# Altium schematic symbol library components.SchLib: 17 symbols
Pins are listed as number, name and electrical type; pins without a type are passive.

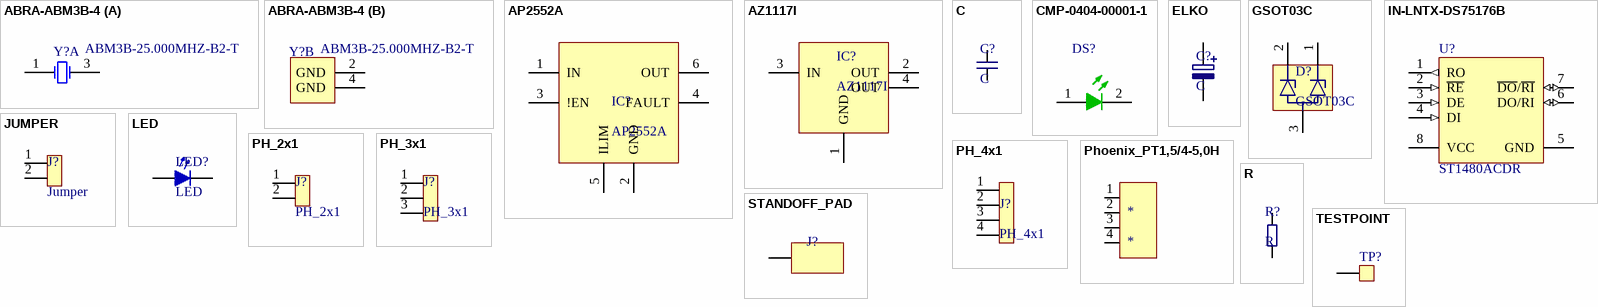
[diagram p0: symbols ABRA-ABM3B-4 to TESTPOINT]

## ABRA-ABM3B-4
designator Y?, comment ABM3B-25.000MHZ-B2-T
Crystal, SMD, 25.000000MHz Stab=50ppm 18.0pF; Manufacturer: Abracon; Packing Type: Tape & Reel; Body Shape: Rectangular; Case Size: 5.0 x 3.2 mm; PackageDescription: 4-Pin SMT Crystal, 5.2 x 3.4 mm Body; ComponentLink2Description: Datasheet; Mounting Technology: Surface Mount; ComponentLink1URL: http://www.abracon.com/; PackageReference: ABM3B; DatasheetVersion: Apr-13; PartNumber: ABM3B-25.000MHZ-B2-T; ComponentLink2URL: http://www.abracon.com/Resonators/abm3b.pdf; ComponentLink1Description: Manufacturer URL; Storage Temperature: -40 to 80 degC
footprint ABRA-ABM3B-4_V (SMT Crystal, 4-Leads, Body 5.2x3.4mm)
part A pins: 1 X1, 3 X2
part B pins: 2 GND (power), 4 GND (power)

## AP2552A
designator IC?
Active-low current/temp limited load switch (active low)
pins: 1 IN, 2 GND, 3 !EN, 4 FAULT, 5 ILIM, 6 OUT

## AZ1117I
designator IC?
LDO, industrial temp range
pins: 1 GND, 2 OUT, 3 IN, 4 OUT

## C
designator C?
Capacitor
pins: 1, 2

## CMP-0404-00001-1
designator DS?, comment KP-1608MGC  (value not drawn)
LED, SMT, 0603(1608), 1.1mm thickness, Green; Manufacturer: Kingbright; Reverse Voltage: 5 V; Power Dissipation: 75 mW; Forward Current: 30 mA; Packing Type: 2000 pcs / reel; Mounting Technology: Surface Mount; Storage Temperature: -40 to +85 degC; ComponentLink1URL: http://www.kingbright.com/; PackageDescription: 2-Pin SMT LED, 1.6 x 0.8 mm Pitch; PartNumber: KP-1608MGC; PackageReference: 0603LED_GREEN; ComponentLink1Description: Manufacturer URL
footprint KING-0603LED_GREEN_V (SMT LED, 2-Leads, Body 1.6x0.8mm (0603-Size))
pins: 1 A, 2 K

## ELKO
designator C?, comment C
pins: 1, 2

## GSOT03C
designator D?
Dual ESD protection zener
pins: 1, 2, 3 GND

## IN-LNTX-DS75176B
designator U?, comment ST1480ACDR
Multipoint RS-485/RS-422 Transceiver, 8-pin Narrow SOIC; Manufacturer: National Semiconductor; PackageTopMarking: NSZXTT*DS751*76BM; CompType: Interface IC; PowerWise: N; PackageReference: M08A; RoHS: N; PackageVersion: revM, May-2009; PinCount: 8; DatasheetVersion: Jul-2004; PackageDescription: SOIC Narrow, 4.9 x 3.9 x 1.45mm, 8 Lead, 1.27mm Pitch; Code_JEDEC: MS-012-AA; Code_IPC: SOIC127P600-8
footprint M08A_N (SOIC, 8-Leads, Body 4.9x3.9mm, Pitch 1.27mm, IPC Medium Density)
footprint M08A_M (SOIC, 8-Leads, Body 4.9x3.9mm, Pitch 1.27mm, IPC Low Density)
footprint M08A_L (SOIC, 8-Leads, Body 4.9x3.9mm, Pitch 1.27mm, IPC High Density)
pins: 1 RO (out), 2 ~{RE} (in), 3 DE (in), 4 DI (in), 5 GND (power), 6 DO/RI (io), 7 ~{DO}/~{RI} (io), 8 VCC (power)

## JUMPER
designator J?, comment Jumper
pins: 1, 2

## LED
designator LED?
pins: A, K

## PH_2x1
designator J?
2x1 Pin Header
pins: 1, 2

## PH_3x1
designator J?
Pin Header 3x1 pin
pins: 1, 2, 3

## PH_4x1
designator J?
Pin Header 4x1 pin
pins: 1, 2, 3, 4

## Phoenix_PT1,5/4-5,0H
designator *
footprint Phoenix_PT_1,5/4-5,0-H
pins: 1, 2, 3, 4

## R
designator R?
Resistor
pins: 1, 2

## STANDOFF_PAD
designator J?, comment STANDOFF  (value not drawn)
Standoff pad
pins: 1

## TESTPOINT
designator TP?, comment TP  (value not drawn)
footprint TESTPOINT
pins: 1